# Altium footprint library RESC2012X60N.PcbLib: 1 footprints
Each footprint in its own frame and in the unit in brackets; x right, y up, seen from the top. Pads: shape width x height; smd on the part's side, far side on the other; paste and mask are expansions set on the pad; w line width, h text height; cw(c..) or ccw(c..) is an arc to the next point about the centre after c.
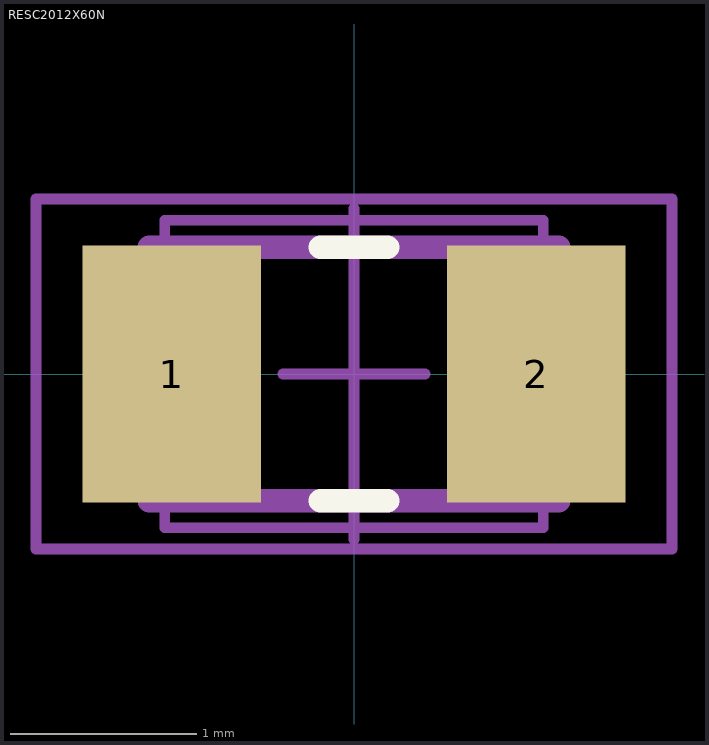
[diagram p0: the footprint, top view; thin cyan lines are the x and y axes]

## RESC2012X60N [mm]
pads (2):
  rect 0.96x1.38 smd: 1(-0.978,0) 2(0.978,0)
Top Overlay:
  lines w0.127: -0.18,-0.68 0.18,-0.68 ; -0.18,0.68 0.18,0.68
Mechanical 1:
  lines w0.058: -1.016,-0.826 1.016,-0.826 1.016,0.826 -1.016,0.826 -1.016,-0.826
Mechanical 13:
  lines w0.127: -1.1,-0.68 1.1,-0.68 1.1,0.68 -1.1,0.68 -1.1,-0.68
Mechanical 15:
  lines w0.058: -0.381,0 0.381,0 ; 0,-0.889 0,0.889 ; -1.708,-0.94 1.708,-0.94 1.708,0.94 -1.708,0.94 -1.708,-0.94
3D body: height 0.51, standoff 0, extent -1.016,-0.826 1.016,0.826